# Altium footprint library 2SMPP03_1.PcbLib: 1 footprints
Each footprint in its own frame and in the unit in brackets; x right, y up, seen from the top. Pads: shape width x height; smd on the part's side, far side on the other; paste and mask are expansions set on the pad; w line width, h text height; cw(c..) or ccw(c..) is an arc to the next point about the centre after c.
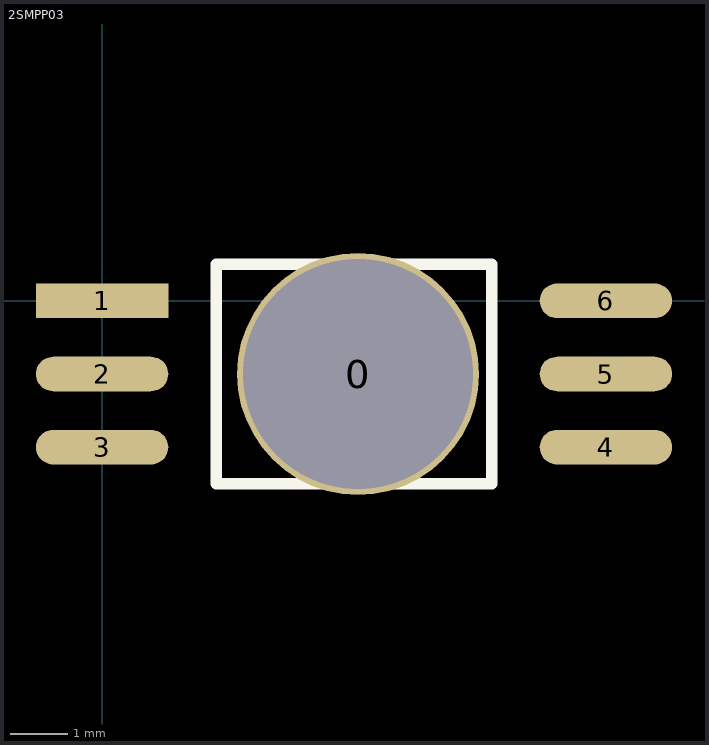
[diagram p0: the footprint, top view; thin cyan lines are the x and y axes]

## 2SMPP03 [mm]
pads (7):
  round 4.2 hole 4: 0(4.445,-1.27)
  rect 2.3x0.6 smd: 1(0,0)
  oval 2.3x0.6 smd: 2(0,-1.27) 3(0,-2.54) 4(8.75,-2.54) 5(8.75,-1.27) 6(8.75,0)
Top Overlay:
  lines w0.2: 1.985,-3.175 6.765,-3.175 6.765,0.635 4.693,0.635 cw(c4.375,0.635) 4.058,0.635 1.985,0.635 1.985,-3.175